# EAGLE library part 60 (library display-lcd-lxd)
6 Numerical Digit, .50" (12.70) Direct Drive Display Additional Descriptors: none
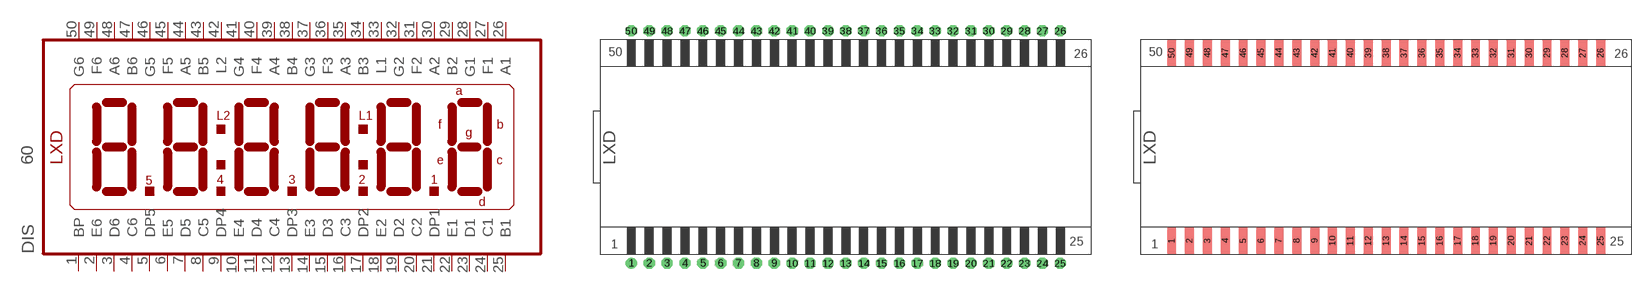
[diagram p1: symbol with the pads of 60-D; footprints 60-D, 60-E]

Designator prefix DIS

## 60DIP  [60-D]
1  BP  pas
2  E6  pas
3  D6  pas
4  C6  pas
5  DP5  pas
6  E5  pas
7  D5  pas
8  C5  pas
9  DP4  pas
10  E4  pas
11  D4  pas
12  C4  pas
13  DP3  pas
14  E3  pas
15  D3  pas
16  C3  pas
17  DP2  pas
18  E2  pas
19  D2  pas
20  C2  pas
21  DP1  pas
22  E1  pas
23  D1  pas
24  C1  pas
25  B1  pas
26  A1  pas
27  F1  pas
28  G1  pas
29  B2  pas
30  A2  pas
31  F2  pas
32  G2  pas
33  L1  pas
34  B3  pas
35  A3  pas
36  F3  pas
37  G3  pas
38  B4  pas
39  A4  pas
40  F4  pas
41  G4  pas
42  L2  pas
43  B5  pas
44  A5  pas
45  F5  pas
46  G5  pas
47  B6  pas
48  A6  pas
49  F6  pas
50  G6  pas

## 60SMD  [60-E]
Pads as for 60-D

## Footprint 60-D (pad centres in mm)
Glass Size: 2.75" x 1.20" &nbsp &nbsp &nbsp &nbsp &nbsp &nbsp &nbsp &nbsp &nbsp (69.85 x 30.48)
drill 0.813 pad 1.6 round: 1 -30.48,-16.51
drill 0.813 pad 1.6 octagon: 2 -27.94,-16.51; 3 -25.4,-16.51; 4 -22.86,-16.51; 5 -20.32,-16.51; 6 -17.78,-16.51; 7 -15.24,-16.51; 8 -12.7,-16.51; 9 -10.16,-16.51; 10 -7.62,-16.51; 11 -5.08,-16.51; 12 -2.54,-16.51; 13 0,-16.51; 14 2.54,-16.51; 15 5.08,-16.51; 16 7.62,-16.51; 17 10.16,-16.51; 18 12.7,-16.51; 19 15.24,-16.51; 20 17.78,-16.51; 21 20.32,-16.51; 22 22.86,-16.51; 23 25.4,-16.51; 24 27.94,-16.51; 25 30.48,-16.51; 26 30.48,16.51; 27 27.94,16.51; 28 25.4,16.51; 29 22.86,16.51; 30 20.32,16.51; 31 17.78,16.51; 32 15.24,16.51; 33 12.7,16.51; 34 10.16,16.51; 35 7.62,16.51; 36 5.08,16.51; 37 2.54,16.51; 38 0,16.51; 39 -2.54,16.51; 40 -5.08,16.51; 41 -7.62,16.51; 42 -10.16,16.51; 43 -12.7,16.51; 44 -15.24,16.51; 45 -17.78,16.51; 46 -20.32,16.51; 47 -22.86,16.51; 48 -25.4,16.51; 49 -27.94,16.51; 50 -30.48,16.51

## Footprint 60-E (pad centres in mm)
Glass Size: 2.75" x 1.20" &nbsp &nbsp &nbsp &nbsp &nbsp &nbsp &nbsp &nbsp &nbsp (69.85 x 30.48)
smd 1.27 x 3.81: 1 -30.48,-13.335; 2 -27.94,-13.335; 3 -25.4,-13.335; 4 -22.86,-13.335; 5 -20.32,-13.335; 6 -17.78,-13.335; 7 -15.24,-13.335; 8 -12.7,-13.335; 9 -10.16,-13.335; 10 -7.62,-13.335; 11 -5.08,-13.335; 12 -2.54,-13.335; 13 0,-13.335; 14 2.54,-13.335; 15 5.08,-13.335; 16 7.62,-13.335; 17 10.16,-13.335; 18 12.7,-13.335; 19 15.24,-13.335; 20 17.78,-13.335; 21 20.32,-13.335; 22 22.86,-13.335; 23 25.4,-13.335; 24 27.94,-13.335; 25 30.48,-13.335; 26 30.48,13.335; 27 27.94,13.335; 28 25.4,13.335; 29 22.86,13.335; 30 20.32,13.335; 31 17.78,13.335; 32 15.24,13.335; 33 12.7,13.335; 34 10.16,13.335; 35 7.62,13.335; 36 5.08,13.335; 37 2.54,13.335; 38 0,13.335; 39 -2.54,13.335; 40 -5.08,13.335; 41 -7.62,13.335; 42 -10.16,13.335; 43 -12.7,13.335; 44 -15.24,13.335; 45 -17.78,13.335; 46 -20.32,13.335; 47 -22.86,13.335; 48 -25.4,13.335; 49 -27.94,13.335; 50 -30.48,13.335